# Altium footprint library 按钮.PcbLib: 21 footprints (part 1 of 2)
Each footprint in its own frame and in the unit in brackets; x right, y up, seen from the top. Pads: shape width x height; smd on the part's side, far side on the other; paste and mask are expansions set on the pad; w line width, h text height; cw(c..) or ccw(c..) is an arc to the next point about the centre after c.
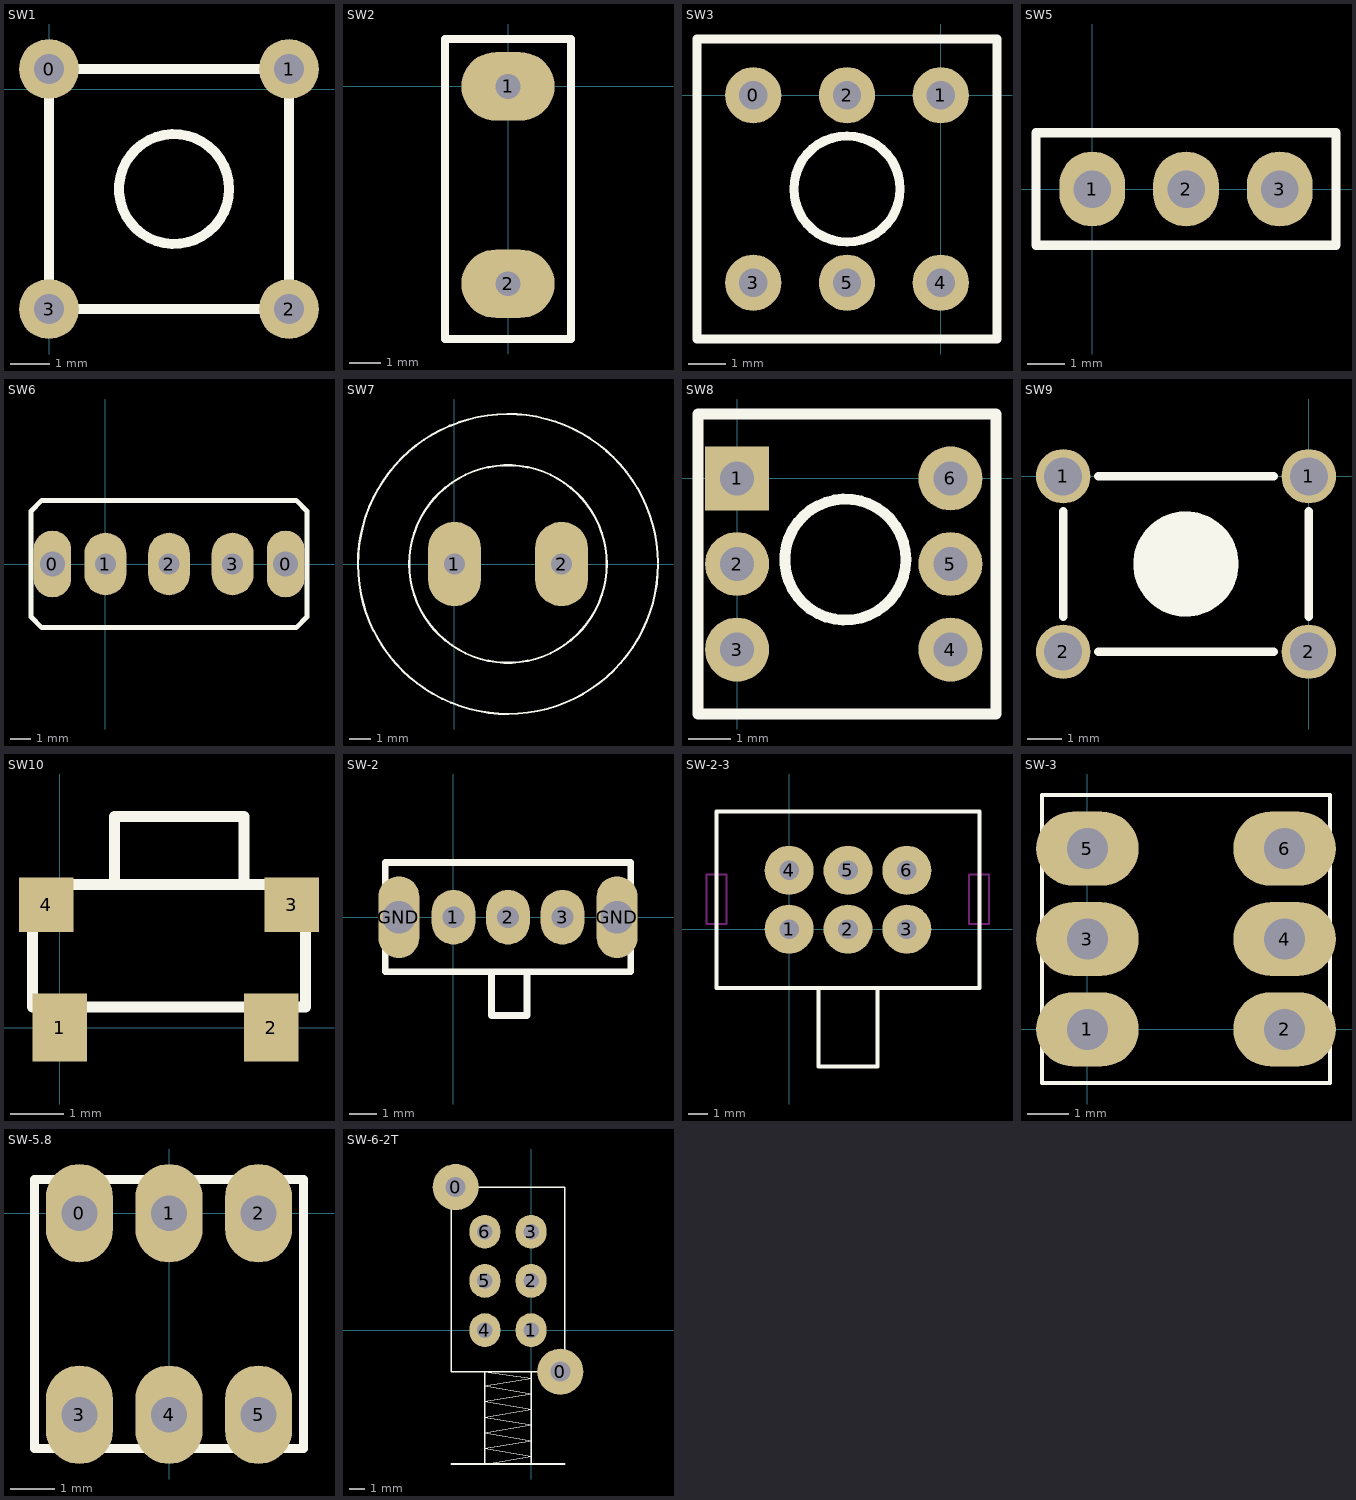
[diagram p0: the footprints below, top view; thin cyan lines are the x and y axes]

## PCBComponent_1 [mm]

## PCBComponent_1 - duplicate [mm]

## SW1 [mil]
pads (4):
  round 60 hole 30: 0(0,20) 1(240,20) 2(240,-220) 3(0,-220)
Top Overlay:
  circle w10: c125,-100 r55
  lines w10: 0,-220 240,-220 240,20 0,20 0,-220

## SW2 [mm]
pads (2):
  oval 3x2.2 hole 0.8: 1(0,0) 2(0,-6.35)
Top Overlay:
  lines w0.254: -2.032,-8.128 -2.032,1.524 2.032,1.524 2.032,-8.128 -2.032,-8.128

## SW3 [mil]
pads (6):
  round 60 hole 30: 0(-200,0) 1(0,0) 2(-100,0) 3(-200,-200) 4(0,-200) 5(-100,-200)
Top Overlay:
  circle w10: c-100,-100 r56.57
  lines w10: -260,-260 -260,60 60,60 60,-260 -260,-260

## SW5 [mil]
pads (3):
  oval 70x80 hole 40: 1(0,0) 2(100,0) 3(200,0)
Top Overlay:
  lines w10: -60,-60 260,-60 260,60 -60,60 -60,-60

## SW6 [mm]
pads (5):
  oval 1.8x3.2 hole 1.2: 0(-2.54,0) 0(8.636,0)
  oval 2x3 hole 1: 1(0,0) 2(3.048,0) 3(6.096,0)
Top Overlay:
  lines w0.24: -3.556,-2.54 -3.048,-3.048 9.144,-3.048 9.652,-2.54 9.652,2.54 9.144,3.048 -3.048,3.048 -3.556,2.54 -3.556,-2.54

## SW7 [mm]
pads (2):
  oval 2.5x4 hole 1: 1(0,0) 2(5.08,0)
Top Overlay:
  circle w0.1: c2.54,0 r4.684
  lines w0.1: 9.652,0 cw(c2.54,0) 9.652,0.062

## SW8 [mm]
pads (6):
  rect 1.5x1.5 hole 0.8: 1(0,0)
  round 1.5 hole 0.8: 2(0,-2.007) 3(0,-4.013) 4(5.004,-4.013) 5(5.004,-2.007) 6(5.004,0)
Top Overlay:
  circle w0.254: c2.54,-1.903 r1.42
  lines w0.254: -0.914,-5.524 -0.914,1.511 6.071,1.511 6.071,-5.524 -0.914,-5.524

## SW9 [mil]
pads (4):
  round 62 hole 43.31: 1(-279.97,0) 1(0,0) 2(-279.97,-200) 2(0,-200)
Top Overlay:
  circle w60: c-140,-100 r30
  lines w10: -280,-160 -280,-40 ; -240,-200 -40,-200 ; -240,0 -40,0 ; 0,-160 0,-40

## SW10 [mil]
pads (4):
  rect 40x50 smd: 1(0,0) 2(155,0)
  rect 40x40 smd: 3(170,90) 4(-10,90)
Top Overlay:
  lines w8: -20,15 -20,105 180,105 180,15 -20,15
  lines w8.07: 40,110 40,155 135,155 135,105

## SW-2 [mm]
pads (5):
  oval 1.6x2 hole 0.8: 1(0,0) 2(2,0) 3(4,0)
  oval 1.5x3 hole 1.2: GND(-2,0) GND(6,0)
Top Overlay:
  lines w0.254: 1.4,-2 1.4,-3.6 2.7,-3.6 2.7,-2 ; -2.5,-2 -2.5,2 6.5,2 6.5,-2 -2.5,-2

## SW-2-3 [mm]
pads (6):
  round 2.5 hole 1: 1(0,0) 2(3,0) 3(6,0) 4(0,3) 5(3,3) 6(6,3)
Top Overlay:
  lines w0.2: 1.5,-3 1.5,-7 4.5,-7 4.5,-3 ; -3.7,-3 -3.7,6 9.7,6 9.7,-3 -3.7,-3
Bottom Solder:
  rectangle: -4.699,-0.5 -2.599,3.6
  rectangle: 8.801,-0.7 10.601,3.6
Keep-Out Layer:
  lines w0.1: -4.216,0.26 -3.2,0.26 -3.2,2.8 -4.216,2.8 -4.216,0.26 ; 9.184,0.26 10.2,0.26 10.2,2.8 9.184,2.8 9.184,0.26

## SW-3 [mm]
pads (6):
  oval 2.5x1.8 hole 1: 1(0,0) 2(4.8,0) 3(0,2.2) 4(4.8,2.2) 5(0,4.4) 6(4.8,4.4)
Top Overlay:
  lines w0.1: -1.1,-1.3 -1.1,5.7 5.9,5.7 5.9,-1.3 -1.1,-1.3

## SW-5.8 [mm]
pads (6):
  oval 1.5x2.2 hole 0.8: 0(-2,0) 1(0,0) 2(2,0) 3(-2,-4.5) 4(0,-4.5) 5(2,-4.5)
Top Overlay:
  lines w0.2: -3,-5.25 3,-5.25 3,0.75 -3,0.75 -3,-5.25

## SW-6-2T [mm]
pads (8):
  round 3 hole 1.3: 0(-4.9,9.3) 0(1.9,-2.7)
  oval 2x2.2 hole 1: 1(0,0) 2(0,3.2) 3(0,6.4) 4(-3,0) 5(-3,3.2) 6(-3,6.4)
Top Overlay:
  lines w0.065: -3.024,-8.7 0,-8.192 -3,-7.684 0.024,-7.176 -3,-6.668 0,-6.16 -3,-5.652 0,-5.144 -3,-4.636 0,-4.128 -3.024,-3.62 0.024,-3.112 -3,-2.7
  lines w0.1: -5.2,-8.7 2.2,-8.7 ; -3,-8.7 -3,-2.7 ; 0,-8.7 0,-2.7 ; -5.2,-2.7 2.2,-2.7 2.2,9.3 -5.2,9.3 -5.2,-2.7